# EAGLE library part 23LC1024 (library PocketCube)
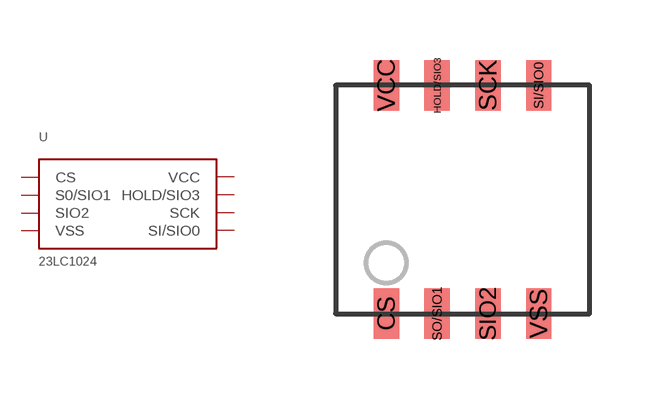
[diagram p24: symbol with the pads of 23LC1024; footprint 23LC1024]

Designator prefix -

## 23LC1024  [23LC1024]
CS  CS
HOLD/SIO3  HOLD/SIO3
SCK  SCK
SI/SIO0  SI/SIO0
SIO2  SIO2
SO/SIO1  S0/SIO1
VCC  VCC
VSS  VSS

## Footprint 23LC1024 (pad centres in mm)
smd 0.635 x 1.27: CS 0,0; HOLD/SIO3 1.27,5.715; SCK 2.54,5.715; SI/SIO0 3.81,5.715; SIO2 2.54,0; SO/SIO1 1.27,0; VCC 0,5.715; VSS 3.81,0